# EAGLE library part 74*243 (library 74xx-eu)
Quadruple BUS TRANSCEIVER
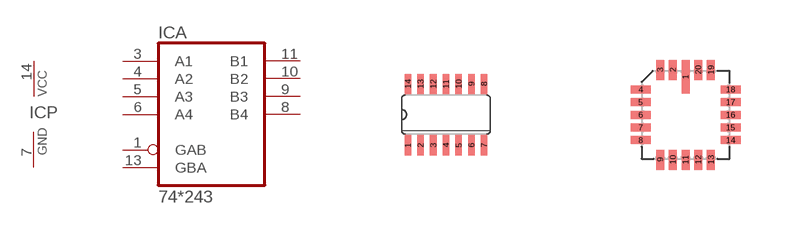
[diagram p142: symbol with the pads of SO14; footprints SO14, LCC20]

Designator prefix IC; gates A=74243 P=PWRN

## 74243D, 74HC243D, 74HCT243D, 74LS243D  [SO14]
1  A:GAB  in
3  A:A1
4  A:A2
5  A:A3
6  A:A4
7  P:GND  pwr
8  A:B4
9  A:B3
10  A:B2
11  A:B1
13  A:GBA  in
14  P:VCC  pwr

## 74243FK, 74HC243FK, 74HCT243FK, 74LS243FK  [LCC20]
2  A:GAB  in
4  A:A1
6  A:A2
8  A:A3
9  A:A4
10  P:GND  pwr
12  A:B4
13  A:B3
14  A:B2
16  A:B1
19  A:GBA  in
20  P:VCC  pwr

## 74243N, 74HC243N, 74HCT243N, 74LS243N  [DIL14]
Pads as for SO14

## Footprint SO14 (pad centres in mm)
Small Outline package 150 mil
smd 0.165 x 0.508: 1 -0.953,-0.768; 2 -0.635,-0.768; 3 -0.318,-0.768; 4 0,-0.768; 5 0.318,-0.768; 6 0.635,-0.768; 7 0.953,-0.768; 8 0.953,0.768; 9 0.635,0.768; 10 0.318,0.768; 11 0,0.768; 12 -0.318,0.768; 13 -0.635,0.768; 14 -0.953,0.768

## Footprint LCC20 (pad centres in mm)
Leadless Chip Carrier Ceramic Package
smd 0.2 x 0.85: 1 0,0.95
smd 0.2 x 0.5: 2 -0.318,1.125; 3 -0.635,1.125; 9 -0.635,-1.125; 10 -0.318,-1.125; 11 0,-1.125; 12 0.318,-1.125; 13 0.635,-1.125; 19 0.635,1.125; 20 0.318,1.125
smd 0.5 x 0.2: 4 -1.125,0.635; 5 -1.125,0.318; 6 -1.125,0; 7 -1.125,-0.318; 8 -1.125,-0.635; 14 1.125,-0.635; 15 1.125,-0.318; 16 1.125,0; 17 1.125,0.318; 18 1.125,0.635

## Footprint DIL14 (pad centres in mm)
Dual In Line Package
drill 0.203 long: 1 -1.905,-0.953; 2 -1.27,-0.953; 3 -0.635,-0.953; 4 0,-0.953; 5 0.635,-0.953; 6 1.27,-0.953; 7 1.905,-0.953; 8 1.905,0.953; 9 1.27,0.953; 10 0.635,0.953; 11 0,0.953; 12 -0.635,0.953; 13 -1.27,0.953; 14 -1.905,0.953